# Altium schematic symbol library RES_THD_AX14_8mm.SchLib: 18 symbols
Pins are listed as number, name and electrical type; pins without a type are passive.

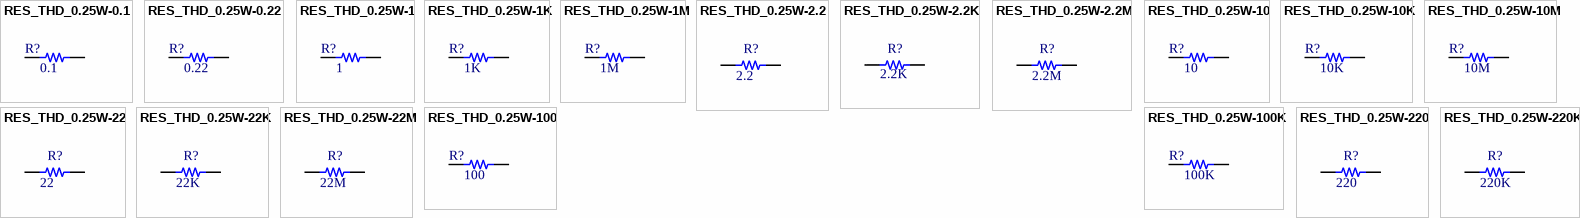
[diagram p0: symbols RES_THD_0.25W-0.1 to RES_THD_0.25W-220K]

## RES_THD_0.25W-0.1
designator R?, comment 0.1
RES_THD_0.25W-0.1; Rating: 0.25; Package: THT; Type: 5%; Value: 0.1
footprint RES_THD_AX14_0.25W-0.1 (RES_THD_AX14_ 0.25W -0.1 - 8 mm)
pins: 1, 2

## RES_THD_0.25W-0.22
designator R?, comment 0.22
RES_THD_0.25W-0.22; Rating: 0.25; Package: THT; Type: 5%; Value: 0.22
footprint RES_THD_AX14_0.25W-0.22 (RES_THD_AX14_ 0.25W -0.22 - 8 mm)
pins: 1, 2

## RES_THD_0.25W-1
designator R?, comment 1
RES_THD_0.25W-1; Rating: 0.25; Package: THT; Type: 5%; Value: 1
footprint RES_THD_AX14_0.25W-1 (RES_THD_AX14_ 0.25W -1 - 8 mm)
pins: 1, 2

## RES_THD_0.25W-1K
designator R?, comment 1K
RES_THD_0.25W-1K; Rating: 0.25; Package: THT; Type: 5%; Value: 1K
footprint RES_THD_AX14_0.25W-1K (RES_THD_AX14_ 0.25W -1K - 8 mm)
pins: 1, 2

## RES_THD_0.25W-1M
designator R?, comment 1M
RES_THD_0.25W-1M; Rating: 0.25; Package: THT; Type: 5%; Value: 1M
footprint RES_THD_AX14_0.25W-1M (RES_THD_AX14_ 0.25W -1M - 8 mm)
pins: 1, 2

## RES_THD_0.25W-2.2
designator R?, comment 2.2
RES_THD_0.25W-2.2; Packge: THT; Rating: 0.25W; Type: 5%; Value: 2.2
footprint RES_THD_AX14_0.25W-2.2 (RES_THD_AX14_ 0.25W - 2.2 - 8 mm)
pins: 1, 2

## RES_THD_0.25W-2.2K
designator R?, comment 2.2K
RES_THD_0.25W-2.2K; Rating: 0.25W; Package: THT; Type: 5%; Value: 2.2K
footprint RES_THD_AX14_0.25W-2.2K (RES_THD_AX14_ 0.25W - 2.2K - 8 mm)
pins: 1, 2

## RES_THD_0.25W-2.2M
designator R?, comment 2.2M
RES_THD_0.25W-2.2M; Rating: 0.25W; Package: THT; Type: 5%; Value: 2.2M
footprint RES_THD_AX14_0.25W-2.2M (RES_THD_AX14_ 0.25W - 2.2M - 8 mm)
pins: 1, 2

## RES_THD_0.25W-10
designator R?, comment 10
RES_THD_0.25W-10; Rating: 0.25; Package: THT; Type: 5%; Value: 10
footprint RES_THD_AX14_0.25W-10 (RES_THD_AX14_ 0.25W -10 - 8 mm)
pins: 1, 2

## RES_THD_0.25W-10K
designator R?, comment 10K
RES_THD_0.25W-10K; Rating: 0.25; Package: THT; Type: 5%; Value: 10K
footprint RES_THD_AX14_0.25W-10K (RES_THD_AX14_ 0.25W -10K - 8 mm)
pins: 1, 2

## RES_THD_0.25W-10M
designator R?, comment 10M
RES_THD_0.25W-10M; Rating: 0.25; Package: THT; Type: 5%; Value: 10M
footprint RES_THD_AX14_0.25W-10M - duplicate8 (RES_THD_AX14_ 0.25W -10M - 8 mm)
pins: 1, 2

## RES_THD_0.25W-22
designator R?, comment 22
RES_THD_0.25W-22; Rating: 0.25W; Package: THT; Type: 5%; Value: 22
footprint RES_THD_AX14_0.25W-22 (RES_THD_AX14_ 0.25W - 22 - 8 mm)
pins: 1, 2

## RES_THD_0.25W-22K
designator R?, comment 22K
RES_THD_0.25W-22K; Packge: THT; Rating: 0.25W; Type: 5%; Value: 22K
footprint RES_THD_AX14_0.25W-22K (RES_THD_AX14_ 0.25W - 22K - 8 mm)
pins: 1, 2

## RES_THD_0.25W-22M
designator R?, comment 22M
RES_THD_0.25W-22M; Raing: 0.25; Package: THT; Type: 5%; Value: 22M
footprint RES_THD_AX14_0.25W-22M (RES_THD_AX14_ 0.25W - 22M - 8 mm)
pins: 1, 2

## RES_THD_0.25W-100
designator R?, comment 100
RES_THD_0.25W-0.1; Rating: 0.25; Package: THT; Type: 5%; Value: 100
footprint RES_THD_AX14_0.25W-100 (RES_THD_AX14_ 0.25W -100 - 8 mm)
pins: 1, 2

## RES_THD_0.25W-100K
designator R?, comment 100K
RES_THD_0.25W-100K; Rating: 0.25; Package: THT; Type: 5%; Value: 100K
footprint RES_THD_AX14_0.25W-100K (RES_THD_AX14_ 0.25W -100K - 8 mm)
pins: 1, 2

## RES_THD_0.25W-220
designator R?, comment 220
RES_THD_0.25W-220; Rating: 0.25W; Package: THT; Type: 5%; Value: 220
footprint RES_THD_AX14_0.25W-220 (RES_THD_AX14_ 0.25W - 220 - 8 mm)
pins: 1, 2

## RES_THD_0.25W-220K
designator R?, comment 220K
RES_THD_0.25W-220K; Rating: 0.25W; Package: THT; Type: 5%; Value: 220K
footprint RES_THD_AX14_0.25W-220K (RES_THD_AX14_ 0.25W - 220K - 8 mm)
pins: 1, 2